# Altium schematic symbol library Empty_Pads.SchLib: 2 symbols
Pins are listed as number, name and electrical type; pins without a type are passive.

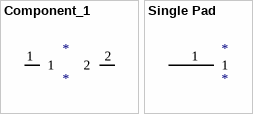
[diagram p0: symbols Component_1 to Single Pad]

## Component_1
designator *
footprint PCBComponent_1
pins: 1, 2

## Single Pad
designator *
footprint Single Pad
pins: 1